# Altium footprint library TSSOP20.PcbLib: 1 footprints
Each footprint in its own frame and in the unit in brackets; x right, y up, seen from the top. Pads: shape width x height; smd on the part's side, far side on the other; paste and mask are expansions set on the pad; w line width, h text height; cw(c..) or ccw(c..) is an arc to the next point about the centre after c.
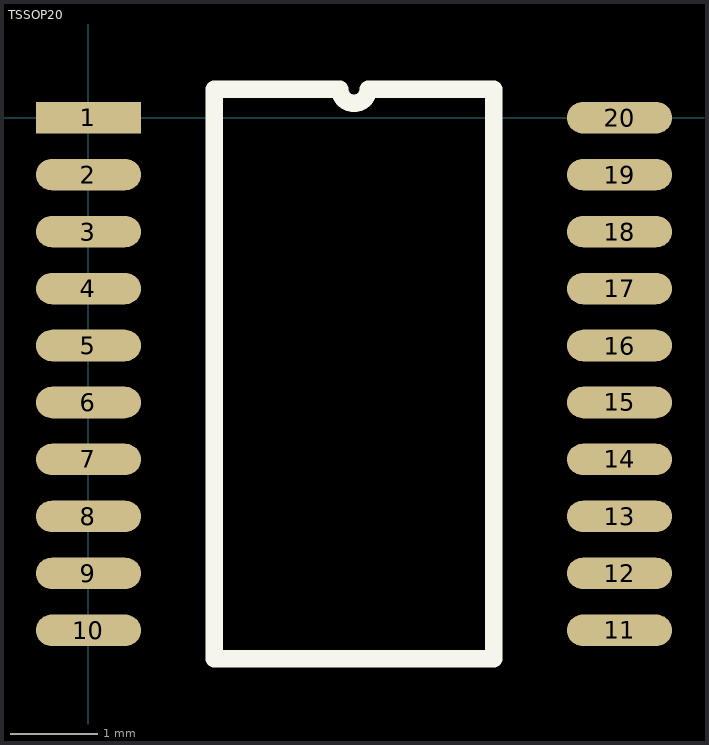
[diagram p0: the footprint, top view; thin cyan lines are the x and y axes]

## TSSOP20 [mm]
pads (20):
  rect 1.2x0.36 smd: 1(0,0)
  oval 1.2x0.36 smd: 2(0,-0.65) 3(0,-1.3) 4(0,-1.95) 5(0,-2.6) 6(0,-3.25) 7(0,-3.9) 8(0,-4.55) 9(0,-5.2) 10(0,-5.85) 11(6.06,-5.85) 12(6.06,-5.2) 13(6.06,-4.55) 14(6.06,-3.9) 15(6.06,-3.25) 16(6.06,-2.6) 17(6.06,-1.95) 18(6.06,-1.3) 19(6.06,-0.65) 20(6.06,0)
Top Overlay:
  lines w0.2: 1.435,-6.175 1.435,0.325 2.867,0.325 ccw(c3.03,0.325) 3.192,0.325 4.625,0.325 4.625,-6.175 1.435,-6.175